# Altium schematic symbol library MCP2515-e_ST.SchLib: 1 symbol
Pins are listed as number, name and electrical type; pins without a type are passive.

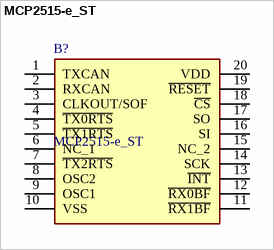
[diagram p0: symbol MCP2515-e_ST]

## MCP2515-e_ST
designator B?
CAN controller with SPI, 125 degC; Manufacturer_Name: Microchip; Manufacturer_Part_Number: MCP2515-e/ST; Geometry.Height: 1.2mm; Mouser Part Number: 579-MCP2515-E/ST; Mouser Price/Stock: https://www.mouser.co.uk/ProductDetail/Microchip-Technology/MCP2515-E-ST?qs=y1t9dHv1DsIvDWDHTyyG6w%3D%3D; Datasheet Link: https://datasheet.datasheetarchive.com/originals/distributors/SFDatasheet-4/sf-00090060.pdf
footprint SOP65P640X120-20N
pins: 1 TXCAN, 2 RXCAN, 3 CLKOUT/SOF, 4 ~{TX0RTS}, 5 ~{TX1RTS}, 6 NC_1, 7 ~{TX2RTS}, 8 OSC2, 9 OSC1, 10 VSS, 11 ~{RX1BF}, 12 ~{RX0BF}, 13 ~{INT}, 14 SCK, 15 NC_2, 16 SI, 17 SO, 18 ~{CS}, 19 ~{RESET}, 20 VDD